# EAGLE library part IRIDIUM_9603N (library SparkFun-RF)
Iridium 9603N Modem Connector is Samtec SS4-10-3.50-L-D-K-TR Requires two HW-14879 M2x0.4 6mm-tall reflow standoffs. The position of the standoffs is shown on the footprint tDocu.
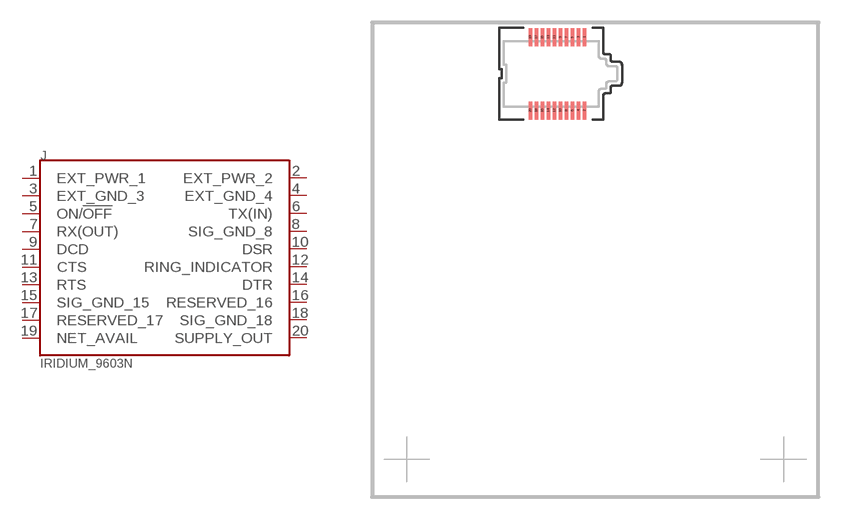
[diagram p52: symbol with the pads of IRIDIUM_9603N; footprint IRIDIUM_9603N]

Designator prefix J

## IRIDIUM_9603N (PROD_ID: CONN-14689; VALUE: IRIDIUM_9603N)  [IRIDIUM_9603N]
1  EXT_PWR_1  pwr
2  EXT_PWR_2  pwr
3  EXT_GND_3  pwr
4  EXT_GND_4  pwr
5  ON/!OFF!  in
6  TX(IN)  in
7  RX(OUT)  out
8  SIG_GND_8  pwr
9  DCD  out
10  DSR  out
11  CTS  out
12  RING_INDICATOR  out
13  RTS  in
14  DTR  in
15  SIG_GND_15  pwr
16  RESERVED_16  nc
17  RESERVED_17  nc
18  SIG_GND_18  pwr
19  NET_AVAIL  out
20  SUPPLY_OUT  out

## Footprint IRIDIUM_9603N (pad centres in mm)
0.4mm[.016] SOCKET STRIP ASSEMBLY.
smd 0.23 x 1.2: 1 1.8,2.435; 2 1.8,-2.435; 3 1.4,2.435; 4 1.4,-2.435; 5 1,2.435; 6 1,-2.435; 7 0.6,2.435; 8 0.6,-2.435; 9 0.2,2.435; 10 0.2,-2.435; 11 -0.2,2.435; 12 -0.2,-2.435; 13 -0.6,2.435; 14 -0.6,-2.435; 15 -1,2.435; 16 -1,-2.435; 17 -1.4,2.435; 18 -1.4,-2.435; 19 -1.8,2.435; 20 -1.8,-2.435